# EAGLE library part SPI_BUS2 (library lieven)
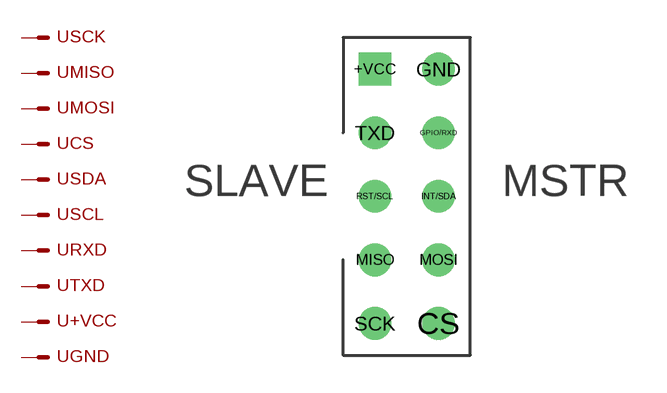
[diagram p14: symbol with the pads of SPI_BUS2; footprint SPI_BUS2]

Designator prefix -; gates SCK=M MISO=M MOSI=M CS=M SDA=M SCL=M RXD=M TXD=M +VCC=M GND=M

## SPI_BUS2  [SPI_BUS2]
+VCC  +VCC:S  pas
CS  CS:S  pas
GND  GND:S  pas
GPIO/RXD  RXD:S  pas
INT/SDA  SDA:S  pas
MISO  MISO:S  pas
MOSI  MOSI:S  pas
RST/SCL  SCL:S  pas
SCK  SCK:S  pas
TXD  TXD:S  pas

## Footprint SPI_BUS2 (pad centres in mm)
drill 0.8 square: +VCC 0,10.16
drill 0.8: CS 2.54,0; GND 2.54,10.16; GPIO/RXD 2.54,7.62; INT/SDA 2.54,5.08; MISO 0,2.54; MOSI 2.54,2.54; RST/SCL 0,5.08; SCK 0,0; TXD 0,7.62